# Altium schematic symbol library SCH - OPAMP - TI LMP2011MA D.SCHLIB: 1 symbol
Pins are listed as number, name and electrical type; pins without a type are passive.

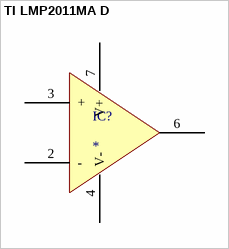
[diagram p0: symbol TI LMP2011MA D]

## TI LMP2011MA D
designator IC?
pins: 2 -, 3 +, 4 V-, 6 OUT, 7 V+